# Altium schematic symbol library EEH-AZF1H101.SchLib: 1 symbol
Pins are listed as number, name and electrical type; pins without a type are passive.

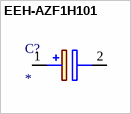
[diagram p0: symbol EEH-AZF1H101]

## EEH-AZF1H101
designator C?
Capacitor Polarised; Manufacturer_Name: Panasonic; Manufacturer_Part_Number: EEH-AZF1H101; Description: PANASONIC - EEH-AZF1H101 - CAP; Datasheet Link: https://componentsearchengine.com/Datasheets/1/EEH-AZF1H101.pdf; Height: 10.5mm; Mouser Part Number: 667-EEH-AZF1H101; Mouser Price/Stock: https://www.mouser.com/Search/Refine.aspx?Keyword=667-EEH-AZF1H101
footprint CAPPRD500W65D1000H1050
pins: 1 +, 2 -